# EAGLE library part RASPBERRY-PI-2 (library Header and Connector)
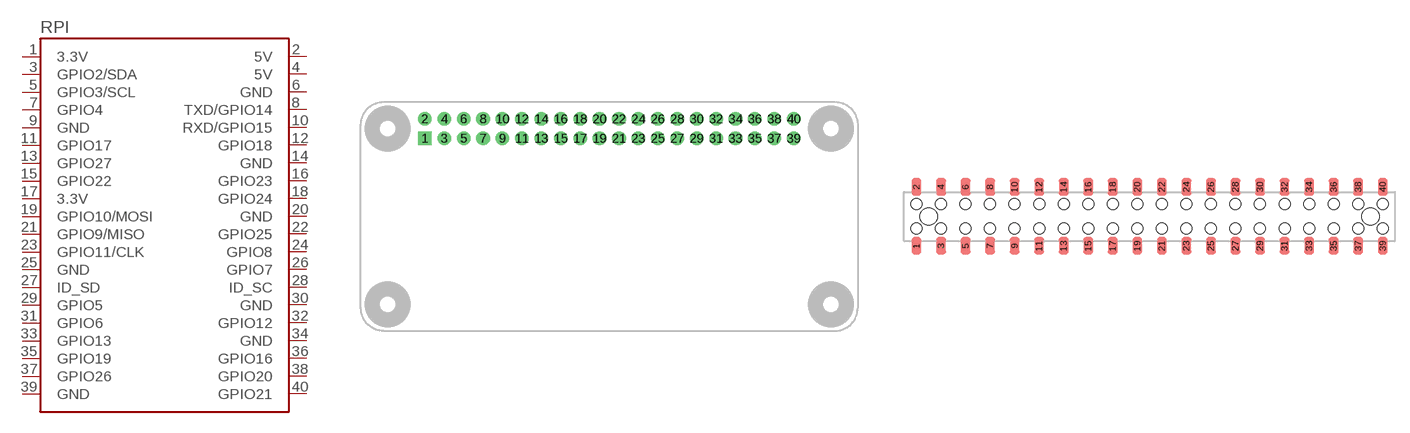
[diagram p31: symbol with the pads of RASPBERRY-PI-ZERO-NOSILK; footprints RASPBERRY-PI-ZERO-NOSILK, S-RASPBERRYPI-NOSILK]

Designator prefix RPI

## RASPBERRY-PI-2_ZERO_(RPI-ZERO-NOSILK)  [RASPBERRY-PI-ZERO-NOSILK]
1  3.3V
2  5V
3  GPIO2/SDA
4  5V
5  GPIO3/SCL
6  GND
7  GPIO4
8  TXD/GPIO14
9  GND
10  RXD/GPIO15
11  GPIO17
12  GPIO18
13  GPIO27
14  GND
15  GPIO22
16  GPIO23
17  3.3V
18  GPIO24
19  GPIO10/MOSI
20  GND
21  GPIO9/MISO
22  GPIO25
23  GPIO11/CLK
24  GPIO8
25  GND
26  GPIO7
27  ID_SD
28  ID_SC
29  GPIO5
30  GND
31  GPIO6
32  GPIO12
33  GPIO13
34  GND
35  GPIO19
36  GPIO16
37  GPIO26
38  GPIO20
39  GND
40  GPIO21

## RASPBERRY-PI-2_(NOSILK) (CYTRON-PC: S-RASPBERRYPI; DESC: Raspberry Pi Pinout 2x20 Ways; VALUE: 2x20)  [S-RASPBERRYPI-NOSILK]
Pads as for RASPBERRY-PI-ZERO-NOSILK

## RASPBERRY-PI-2_(HEADER-ONLY-TH)  [HDR-M2X20]
Pads as for RASPBERRY-PI-ZERO-NOSILK

## Footprint RASPBERRY-PI-ZERO-NOSILK (pad centres in mm)
Raspberry Pi Zero Size: 65mm x 30mm Created by: Idris
drill 1.016 pad 1.778 square: 1 8.37,25.23
drill 1.016 pad 1.778: 2 8.37,27.77; 3 10.91,25.23; 4 10.91,27.77; 5 13.45,25.23; 6 13.45,27.77; 7 15.99,25.23; 8 15.99,27.77; 9 18.53,25.23; 10 18.53,27.77; 11 21.07,25.23; 12 21.07,27.77; 13 23.61,25.23; 14 23.61,27.77; 15 26.15,25.23; 16 26.15,27.77; 17 28.69,25.23; 18 28.69,27.77; 19 31.23,25.23; 20 31.23,27.77; 21 33.77,25.23; 22 33.77,27.77; 23 36.31,25.23; 24 36.31,27.77; 25 38.85,25.23; 26 38.85,27.77; 27 41.39,25.23; 28 41.39,27.77; 29 43.93,25.23; 30 43.93,27.77; 31 46.47,25.23; 32 46.47,27.77; 33 49.01,25.23; 34 49.01,27.77; 35 51.55,25.23; 36 51.55,27.77; 37 54.09,25.23; 38 54.09,27.77; 39 56.63,25.23; 40 56.63,27.77

## Footprint S-RASPBERRYPI-NOSILK (pad centres in mm)
smd 1.016 x 1.778: 1 -24.13,-3.048; 2 -24.13,3.048; 3 -21.59,-3.048; 4 -21.59,3.048; 5 -19.05,-3.048; 6 -19.05,3.048; 7 -16.51,-3.048; 8 -16.51,3.048; 9 -13.97,-3.048; 10 -13.97,3.048; 11 -11.43,-3.048; 12 -11.43,3.048; 13 -8.89,-3.048; 14 -8.89,3.048; 15 -6.35,-3.048; 16 -6.35,3.048; 17 -3.81,-3.048; 18 -3.81,3.048; 19 -1.27,-3.048; 20 -1.27,3.048; 21 1.27,-3.048; 22 1.27,3.048; 23 3.81,-3.048; 24 3.81,3.048; 25 6.35,-3.048; 26 6.35,3.048; 27 8.89,-3.048; 28 8.89,3.048; 29 11.43,-3.048; 30 11.43,3.048; 31 13.97,-3.048; 32 13.97,3.048; 33 16.51,-3.048; 34 16.51,3.048; 35 19.05,-3.048; 36 19.05,3.048; 37 21.59,-3.048; 38 21.59,3.048; 39 24.13,-3.048; 40 24.13,3.048
hole 1.143 at -1.27,1.27
hole 1.143 at -1.27,-1.27
hole 1.143 at -3.81,1.27
hole 1.143 at -3.81,-1.27
hole 1.143 at -6.35,1.27
hole 1.143 at -6.35,-1.27
hole 1.143 at -8.89,1.27
hole 1.143 at -8.89,-1.27
hole 1.143 at -11.43,1.27
hole 1.143 at -11.43,-1.27
hole 1.143 at -13.97,1.27
hole 1.143 at -13.97,-1.27
hole 1.143 at -16.51,1.27
hole 1.143 at -16.51,-1.27
hole 1.143 at -19.05,1.27
hole 1.143 at -19.05,-1.27
hole 1.143 at -21.59,1.27
hole 1.143 at -21.59,-1.27
hole 1.143 at -24.13,1.27
hole 1.143 at -24.13,-1.27
hole 1.143 at 11.43,1.27
hole 1.143 at 11.43,-1.27
hole 1.143 at 8.89,1.27
hole 1.143 at 8.89,-1.27
hole 1.143 at 6.35,1.27
hole 1.143 at 6.35,-1.27
hole 1.143 at 3.81,1.27
hole 1.143 at 3.81,-1.27
hole 1.143 at 1.27,1.27
hole 1.143 at 1.27,-1.27
hole 1.143 at 24.13,1.27
hole 1.143 at 24.13,-1.27
hole 1.143 at 21.59,1.27
hole 1.143 at 21.59,-1.27
hole 1.143 at 19.05,1.27
hole 1.143 at 19.05,-1.27
hole 1.143 at 16.51,1.27
hole 1.143 at 16.51,-1.27
hole 1.143 at 13.97,1.27
hole 1.143 at 13.97,-1.27
hole 1.778 at -22.86,0
hole 1.778 at 22.86,0

## Footprint HDR-M2X20 (pad centres in mm)
drill 1.016 pad 1.778 square: 1 0,0
drill 1.016 pad 1.778: 2 0,2.54; 3 2.54,0; 4 2.54,2.54; 5 5.08,0; 6 5.08,2.54; 7 7.62,0; 8 7.62,2.54; 9 10.16,0; 10 10.16,2.54; 11 12.7,0; 12 12.7,2.54; 13 15.24,0; 14 15.24,2.54; 15 17.78,0; 16 17.78,2.54; 17 20.32,0; 18 20.32,2.54; 19 22.86,0; 20 22.86,2.54; 21 25.4,0; 22 25.4,2.54; 23 27.94,0; 24 27.94,2.54; 25 30.48,0; 26 30.48,2.54; 27 33.02,0; 28 33.02,2.54; 29 35.56,0; 30 35.56,2.54; 31 38.1,0; 32 38.1,2.54; 33 40.64,0; 34 40.64,2.54; 35 43.18,0; 36 43.18,2.54; 37 45.72,0; 38 45.72,2.54; 39 48.26,0; 40 48.26,2.54